# Altium schematic symbol library BSC039N06NS.SchLib: 1 symbol
Pins are listed as number, name and electrical type; pins without a type are passive.

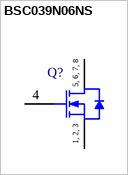
[diagram p0: symbol BSC039N06NS]

## BSC039N06NS
designator Q?
N-Channel OptiMOS Power-Transistor, 60 V VDS, 100 A ID, -55 to 150 degC, PG-TDSON-8-1, Reel, Green; Manufacturer: Infineon; PartNumber: BSC039N06NS; Green: TRUE; ID (max): 100 A; IDpuls (max): 400 A; Polarity: N; Ptot (max): 69 W; QG: 27 nC; RDS (on) (max): 3.9 mOhm; Rth: 1.8 K/W; RthJA (max): 50 K/W; VDS (max): 60 V; VGS(th) (max): 3.3 V; VGS(th) (min): 2.1 V; DatasheetVersion: Rev. 2.1; PackageReference: PG-TDSON-8-1; PackageDescription: 8-Pin Plastic (Green) Thin Dual Small Outline Non-Leaded Package, 5.15 x 5.9 mm Body, 1.27 mm Pitch; Supplier 1: Digi-Key; Supplier Part Number 1: BSC039N06NSTR-ND; Supplier 2: Digi-Key; Supplier Part Number 2: BSC039N06NSCT-ND; Supplier 3: Digi-Key; Supplier Part Number 3: BSC039N06NSDKR-ND; Supplier 4: Mouser; Supplier Part Number 4: N/A; Halogen-free: TRUE; Packing: Reel; RthJC (max): 1.8 K/W; Mounting Technology: Surface Mount; ComponentLink1Description: Manufacturer URL; ComponentLink1URL: http://www.infineon.com/; ComponentLink2Description: Datasheet; ComponentLink2URL: http://www.infineon.com/dgdl/BSC039N06NS_Rev2.1.pdf?folderId=db3a304313b8b5a60113cee8763b02d7&fileId=db3a30433727a44301372c3adce949c7; ComponentLink3Description: Package Specification; ComponentLink3URL: http://www.infineon.com/cms/packages/SMD_-_Surface_Mounted_Devices/P-PG-TDSON/P-PG-TDSON-08-01x_2x_3.html?__locale=en
footprint INF-PG-TDSON-8-1_V (TDSON, 8-Leads, Body 6.15x5.15mm, Pitch 1.27mm)
pins: 1 SOURCE, 2 SOURCE, 3 SOURCE, 4 GATE, 5 DRAIN, 6 DRAIN, 7 DRAIN, 8 DRAIN
text: 5, 6, 7, 8; 1, 2, 3